# EAGLE library part СНП392-12 (library connectors)
РЮМК.430420.037 ТУ Соединитель электрический прямоугольный типа СНП392 предназначен для работы в электрических цепях постоянного, переменного и импульсного токов в радиоэлектронной аппаратуре специального и общепромышленного назначения. Технические условия ОТК: РЮМК.430420.050 ТУ Технические условия ВП: РЮМК.430420.037 ТУ Производитель: АО «Карачевский завод "Электродеталь" 242500 Брянская область, г. Карачев, ул. Горького, 1
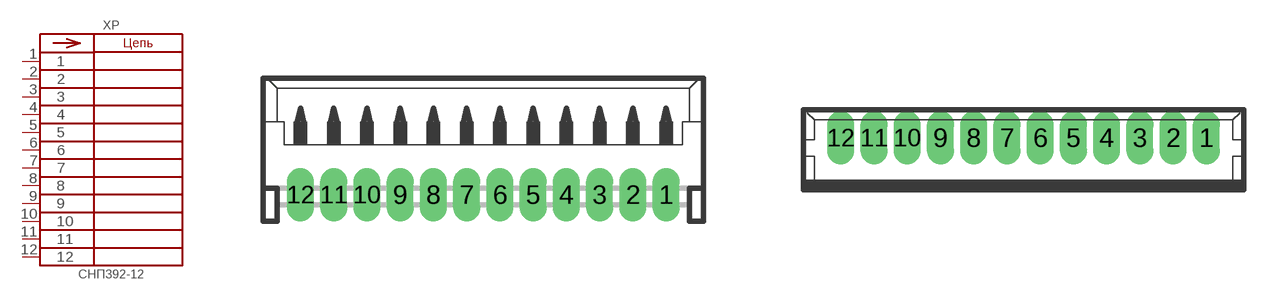
[diagram p5: symbol with the pads of СНП392-12(угловой); footprints СНП392-12(угловой), СНП392-12(прямой)]

Designator prefix XP

## СНП392-12В321-1  [СНП392-12(угловой)]
1  1  pas
2  2  pas
3  3  pas
4  4  pas
5  5  pas
6  6  pas
7  7  pas
8  8  pas
9  9  pas
10  10  pas
11  11  pas
12  12  pas

## СНП392-12ВП21-1  [СНП392-12(прямой)]
Pads as for СНП392-12(угловой)

## СНП392-12ВП51-1  [СНП392-12(поверхностный)]
Pads as for СНП392-12(угловой)

## Footprint СНП392-12(угловой) (pad centres in mm)
drill 0.5 pad 0.698 long: 1 6.875,-1.25; 2 5.625,-1.25; 3 4.375,-1.25; 4 3.125,-1.25; 5 1.875,-1.25; 6 0.625,-1.25; 7 -0.625,-1.25; 8 -1.875,-1.25; 9 -3.125,-1.25; 10 -4.375,-1.25; 11 -5.625,-1.25; 12 -6.875,-1.25

## Footprint СНП392-12(прямой) (pad centres in mm)
drill 0.5 pad 0.698 long: 1 6.875,0.45; 2 5.625,0.45; 3 4.375,0.45; 4 3.125,0.45; 5 1.875,0.45; 6 0.625,0.45; 7 -0.625,0.45; 8 -1.875,0.45; 9 -3.125,0.45; 10 -4.375,0.45; 11 -5.625,0.45; 12 -6.875,0.45

## Footprint СНП392-12(поверхностный) (pad centres in mm)
smd 0.8 x 2: 1 6.875,-2.5; 2 5.625,-2.5; 3 4.375,-2.5; 4 3.125,-2.5; 5 1.875,-2.5; 6 0.625,-2.5; 7 -0.625,-2.5; 8 -1.875,-2.5; 9 -3.125,-2.5; 10 -4.375,-2.5; 11 -5.625,-2.5; 12 -6.875,-2.5
smd 2.1 x 3: S1 9.375,0.625; S2 -9.375,0.625